# EAGLE library part BAT54C-2 (library T2M_4_0)
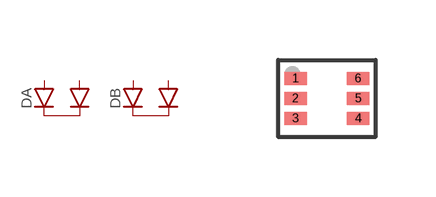
[diagram p2: symbol with the pads of SOT-666; footprint SOT-666]

Designator prefix D; gates A=BAT54C B=BAT54C

## BAT54C-2-SOT-666  [SOT-666]
1  A:A1  pas
2  A:A2  pas
3  B:CC  pas
4  B:A1  pas
5  B:A2  pas
6  A:CC  pas

## Footprint SOT-666 (pad centres in mm)
6-SOTFL, 0.50 mm pitch, 1.60 mm span, 1.60 X 1.20 X 0.60 mm body 6-pin SOTFL package with 0.50 mm pitch, 1.60 mm span with body size 1.60 X 1.20 X 0.60 mm
smd 0.56 x 0.32: 1 -0.785,0.5; 2 -0.785,0; 3 -0.785,-0.5; 4 0.785,-0.5; 5 0.785,0; 6 0.785,0.5